# EAGLE library part RJ-8PIN (library Stewart)
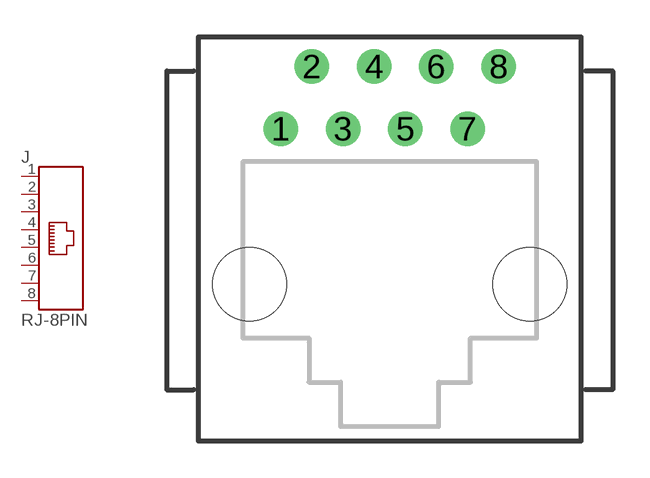
[diagram p2: symbol with the pads of RJ-8PIN; footprint RJ-8PIN]

Designator prefix J

## RJ-8PIN  [RJ-8PIN]
1  1  pas
2  2  pas
3  3  pas
4  4  pas
5  5  pas
6  6  pas
7  7  pas
8  8  pas

## Footprint RJ-8PIN (pad centres in mm)
drill 0.9 pad 1.4: 1 -4.445,6.35; 2 -3.175,8.89; 3 -1.905,6.35; 4 -0.635,8.89; 5 0.635,6.35; 6 1.905,8.89; 7 3.175,6.35; 8 4.445,8.89
hole 3 at 5.715,0
hole 3 at -5.715,0